# EAGLE library part HEXABUS (library hexabus)
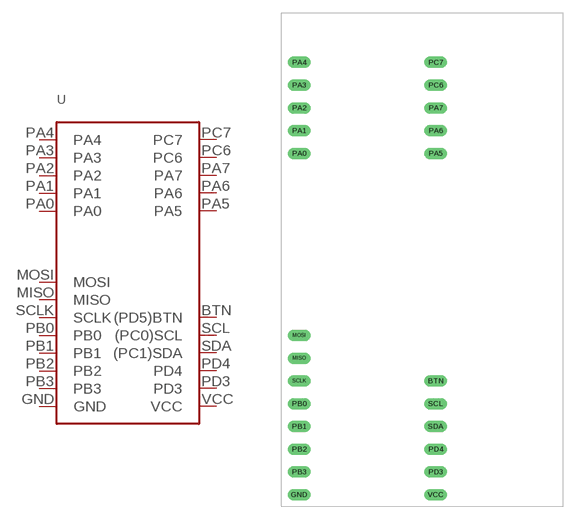
[diagram p0: symbol with the pads of HEXABUS; footprint HEXABUS]

Designator prefix -

## HEXABUS  [HEXABUS]
BTN  (PD5)BTN
GND  GND
MISO  MISO
MOSI  MOSI
PA0  PA0
PA1  PA1
PA2  PA2
PA3  PA3
PA4  PA4
PA5  PA5
PA6  PA6
PA7  PA7
PB0  PB0
PB1  PB1
PB2  PB2
PB3  PB3
PC6  PC6
PC7  PC7
PD3  PD3
PD4  PD4
SCL  (PC0)SCL
SCLK  SCLK
SDA  (PC1)SDA
VCC  VCC

## Footprint HEXABUS (pad centres in mm)
drill 0.8 long: BTN 1.49,-13.53; GND -13.75,-26.23; MISO -13.75,-10.99; MOSI -13.75,-8.45; PA0 -13.75,11.87; PA1 -13.75,14.41; PA2 -13.75,16.95; PA3 -13.75,19.49; PA4 -13.75,22.03; PA5 1.49,11.87; PA6 1.49,14.41; PA7 1.49,16.95; PB0 -13.75,-16.07; PB1 -13.75,-18.61; PB2 -13.75,-21.15; PB3 -13.75,-23.69; PC6 1.49,19.49; PC7 1.49,22.03; PD3 1.49,-23.69; PD4 1.49,-21.15; SCL 1.49,-16.07; SCLK -13.75,-13.53; SDA 1.49,-18.61; VCC 1.49,-26.23